# EAGLE library part INA333 (library LINEAR)
Micro-Power (50mA), Zerø-Drift, Rail-to-Rail Out Instrumentation Amplifier Datasheet <http://www.ti.com/lit/ds/symlink/ina333.pdf>
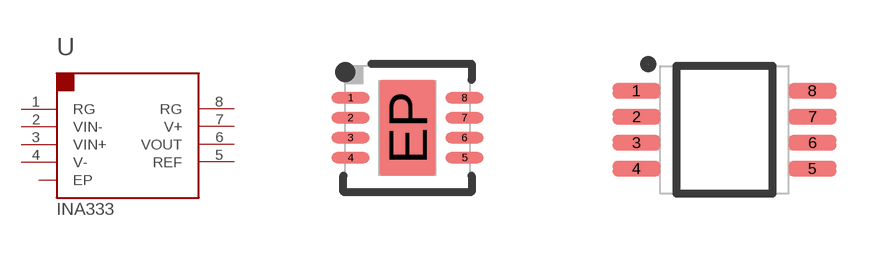
[diagram p2: symbol with the pads of WFDFN-8-EP; footprints WFDFN-8-EP, MSOP08]

Designator prefix U

## INA333AIDRG (PARTNO: 01-100488-00)  [WFDFN-8-EP]
1  RG
2  VIN-  in
3  VIN+  in
4  V-  pwr
5  REF
6  VOUT  out
7  V+  pwr
8  RG
EP  EP  pas

## INA333AIDGK  [MSOP08]
1  RG
2  VIN-  in
3  VIN+  in
4  V-  pwr
5  REF
6  VOUT  out
7  V+  pwr
8  RG

## Footprint WFDFN-8-EP (pad centres in mm)
smd 0.95 x 0.28: 1 -1.425,0.75; 2 -1.425,0.25; 3 -1.425,-0.25; 4 -1.425,-0.75; 5 1.425,-0.75; 6 1.425,-0.25; 7 1.425,0.25; 8 1.425,0.75
smd 1.4 x 2.4: EP 0,0

## Footprint MSOP08 (pad centres in mm)
8-Lead Mini Small Outline Package [MSOP] Changes: 10/23/15 - Update dimensions to reflect worst case AD8495 sizes. Round and narrow pads. CN 11/14/13 - Change tPlace to standardize look. Shorten pad length. CN
smd 1.2 x 0.4: 1 -2.2,0.975; 2 -2.2,0.325; 3 -2.2,-0.325; 4 -2.2,-0.975; 5 2.2,-0.975; 6 2.2,-0.325; 7 2.2,0.325; 8 2.2,0.975